# Altium schematic symbol library Movandi_sch.SchLib: 12 symbols
Pins are listed as number, name and electrical type; pins without a type are passive.

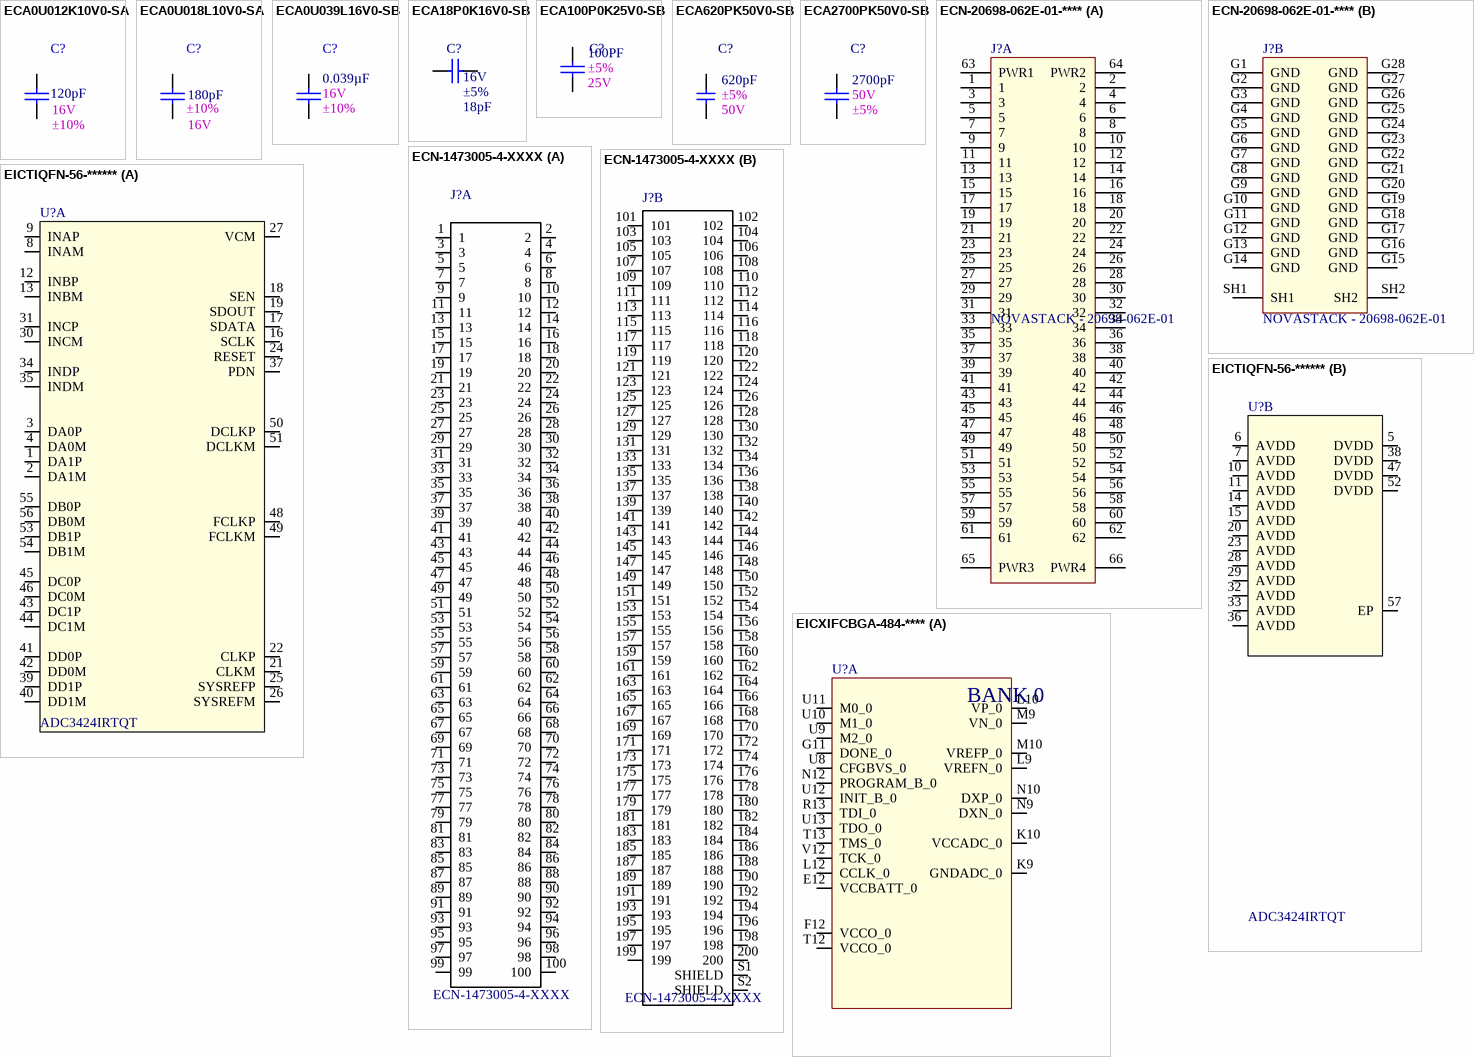
[diagram p0: symbols ECA0U012K10V0-SA to EICXIFCBGA-484-****]

## ECA0U012K10V0-SA
designator C?, comment value 120pF  2nd Auxiliary Field: ±10%  1st Auxiliary Field: 16V  (hidden comment: CAP CER 120PF 16V X7R 0201)
Manufacturer Part Number: 0201YC121KAT2A; Manufacturer: AVX Corporation; Internal Part Number: ECA0U012K10V0-SA; Vendor Part Number: 478-1028-1-ND; Component Height (mm): 0.33mm; 4th Auxiliary Field: RoHS Compliant; Vendor Name: Digi-Key; 3rd Auxiliary Field: *; Part Type: CAP CER 120PF 16V X7R 0201; Temp Co: X7R
footprint SMDC0201 (Footprint not found)
pins: 1, 2

## ECA0U018L10V0-SA
designator C?, comment value 180pF  1st Auxiliary Field: 16V  2nd Auxiliary Field: ±10%  (hidden comment: CAP CER 180PF 16V X7R 0201)
Manufacturer Part Number: GRM033R71C181KA01D; Manufacturer: Murata Electronics; Internal Part Number: ECA0U018L10V0-SA; Vendor Part Number: 490-12688-1-ND; Component Height (mm): 0.33mm; 4th Auxiliary Field: RoHS3 Compliant; Vendor Name: Digi-Key; 3rd Auxiliary Field: *; Part Type: CAP CER 180PF 16V X7R 0201; Temp Co: X7R
footprint SMDC0201 (Footprint not found)
pins: 1, 2

## ECA0U039L16V0-SB
designator C?, comment value 0.039µF  1st Auxiliary Field: 16V  2nd Auxiliary Field: ±10%  (hidden comment: CAP CER 0.039UF 16V X7R 0402)
Manufacturer Part Number: GCM155R71C393KA37D; Manufacturer: Murata Electronics; Internal Part Number: ECA0U039L16V0-SB; Vendor Part Number: 490-16432-1-ND; 3rd Auxiliary Field: ROHS3 Compliant; Component Height (mm): 0.55mm; Vendor Name: Digi-Key; Part Type: CAP CER 0.039UF 16V X7R 0402; Temp Co: X7R; 4th Auxiliary Field: *
footprint SMDC0402 (Footprint not found)
pins: 1, 2

## ECA18P0K16V0-SB
designator C?, comment value 18pF  2nd Auxiliary Field: ±5%  1st Auxiliary Field: 16V  (hidden comment: CAP CER 18PF 16V NP0 0402)
Internal part Number: ECA18P0K16V0-SB; Manufacturer: KEMET; Vendor Part Number: 399-14426-1-ND; Manufacturer Part Number: C0402C180J4GAC7867; 3rd Auxiliary Field: ROHS3 Compliant; Component Height (mm): .55mm; Temperature Coefficient: -55°C ~ 125°C; Vendor Name: Digi-Key; Part Type: CAP CER 18PF 16V NP0 0402
footprint SMDC0402 (Footprint not found)
pins: 1, 2

## ECA100P0K25V0-SB
designator C?, comment value 100PF  2nd Auxiliary Field: ±5%  1st Auxiliary Field: 25V  (hidden comment: CAP CER 100PF 25V X7RCAP CER 100PF 25V C0G/NP0 0402 0402)
CAP CER 100PF 25V C0G/NP0 0402; Manufacturer: KEMET; Vendor Part Number: 399-1022-1-ND; Manufacturer Part Number: C0402C101J3GACTU; Internal Part Number: ECA100P0K25V0-SB; Vendor Name: Digi-Key; 3rd Auxiliary Field: ROHS3 Compliant; Component Height (mm): 0.55mm; Temp Co: -55°C ~ 125°C; Part Type: CAP CER 100PF 25V C0G/NP0 0402
footprint SMDC0402 (Footprint not found)
pins: 1, 2

## ECA620PK50V0-SB
designator C?, comment value 620pF  1st Auxiliary Field: 50V  2nd Auxiliary Field: ±5%  (hidden comment: CAP CER 620PF 50V C0G/NP0 0402)
Manufacturer: KEMET; Manufacturer Part Number: C0402C621J5GAC7867; Internal Part Number: ECA620PK50V0-SB; Vendor Part Number: 399-14922-1-ND; Temp Co: -55°C ~ 125°C; 3rd Auxiliary Field: ROHS3 Compliant; Component Height (mm): 0.55mm; Vendor Name: Digi-Key; Part Type: CAP CER 620PF 50V C0G/NP0 0402; 4th Auxiliary Field: *
footprint SMDC0402 (Footprint not found)
pins: 1, 2

## ECA2700PK50V0-SB
designator C?, comment value 2700pF  2nd Auxiliary Field: ±5%  1st Auxiliary Field: 50V  (hidden comment: CAP CER 2700PF 50V X7R 0402)
Manufacturer: Yageo; Manufacturer Part Number: CC0402JRX7R9BB272; Internal Part Number: ECA2700PK50V0-SB; Vendor Part Number: 311-3767-1-ND; Component Height (mm): 0.55mm; 3rd Auxiliary Field: ROHS3 Compliant; Temp Co: -55°C ~ 125°C; Vendor Name: Digi-Key; Part Type: CAP CER 2700PF 50V X7R 0402
footprint SMDC0402 (Footprint not found)
footprint SMDC0603
pins: 1, 2

## ECN-20698-062E-01-****
designator J?, comment Manufacturer Part Number: NOVASTACK - 20698-062E-01  (hidden comment: CONN REC 0.35 mm pitch, 62 POS SMD)
Manufacturer: I-PEX Connectors; Internal Part Number: ECN-20698-062E-01-****; 1st Auxiliary Field: Receptacle; 2nd Auxiliary Field: 3.5mm; 3rd Auxiliary Field: 62Pos; Component Height (mm): 0.63mm; Temp Co: -40°C ~ 85°C; Value: 20698-062E-01; Vendor Part Number: https://www.i-pex.com/product/novastack-35-hdp; 4th Auxiliary Field: *; Part Type: CONN REC 0.35 mm pitch, 62 POS SMD
footprint NOVASTACK_I-PEX_20698-062E-01_20698-062E-01 (CONN REC 0.35 mm pitch, 62 POS SMD)
part A pins: 1 (power), 2 (power), 3 (power), 4 (power), 5 (power), 6 (power), 7 (power), 8 (power), 9 (power), 10 (power), 11 (power), 12 (power), 13 (power), 14 (power), 15 (power), 16 (power), 17 (power), 18 (power), 19 (power), 20 (power), 21 (power), 22 (power), 23 (power), 24 (power), 25 (power), 26 (power), 27 (power), 28 (power), 29 (power), 30 (power), 31 (power), 32 (power), 33 (power), 34 (power), 35 (power), 36 (power), 37 (power), 38 (power), 39 (power), 40 (power), 41 (power), 42 (power), 43 (power), 44 (power), 45 (power), 46 (power), 47 (power), 48 (power), 49 (power), 50 (power), 51 (power), 52 (power), 53 (power), 54 (power), 55 (power), 56 (power), 57 (power), 58 (power), 59 (power), 60 (power), 61 (power), 62 (power), 63 PWR1 (power), 64 PWR2 (power), 65 PWR3 (power), 66 PWR4 (power)
part B pins: G1 GND (power), G2 GND (power), G3 GND (power), G4 GND (power), G5 GND (power), G6 GND (power), G7 GND (power), G8 GND (power), G9 GND (power), G10 GND (power), G11 GND (power), G12 GND (power), G13 GND (power), G14 GND (power), G15 GND (power), G16 GND (power), G17 GND (power), G18 GND (power), G19 GND (power), G20 GND (power), G21 GND (power), G22 GND (power), G23 GND (power), G24 GND (power), G25 GND (power), G26 GND (power), G27 GND (power), G28 GND (power), SH1 (power), SH2 (power)

## ECN-1473005-4-XXXX
designator J?
200 Position SODIMM DDR2 SDRAM Socket Surface Mount, Right Angle; Manufacturer: TE Connectivity AMP Connectors; Vendor Part Number: A114851-ND; 2nd Auxiliary Field: ROHS complaint; Component Height (mm): 9mm; Vendor Name: Digi-Key; 1st Auxiliary Field: *; 3rd Auxiliary Field: *; 4th Auxiliary Field: *; Internal Part Number: ECN-1473005-4-XXXX; Manufacturer Part Number: 1473005-4; Part Type: CONN SKT SODIMM 200POS R/A SMD; Temp Co: *; Value: ECN-1473005-4-XXXX
footprint TE_1473005 (200 Position SODIMM DDR2 SDRAM Socket Surface Mount, Right Angle)
part A pins: 1, 2, 3, 4, 5, 6, 7, 8, 9, 10, 11, 12, 13, 14, 15, 16, 17, 18, 19, 20, 21, 22, 23, 24, 25, 26, 27, 28, 29, 30, 31, 32, 33, 34, 35, 36, 37, 38, 39, 40, 41, 42, 43, 44, 45, 46, 47, 48, 49, 50, 51, 52, 53, 54, 55, 56, 57, 58, 59, 60, 61, 62, 63, 64, 65, 66, 67, 68, 69, 70, 71, 72, 73, 74, 75, 76, 77, 78, 79, 80, 81, 82, 83, 84, 85, 86, 87, 88, 89, 90, 91, 92, 93, 94, 95, 96, 97, 98, 99, 100
part B pins: 101, 102, 103, 104, 105, 106, 107, 108, 109, 110, 111, 112, 113, 114, 115, 116, 117, 118, 119, 120, 121, 122, 123, 124, 125, 126, 127, 128, 129, 130, 131, 132, 133, 134, 135, 136, 137, 138, 139, 140, 141, 142, 143, 144, 145, 146, 147, 148, 149, 150, 151, 152, 153, 154, 155, 156, 157, 158, 159, 160, 161, 162, 163, 164, 165, 166, 167, 168, 169, 170, 171, 172, 173, 174, 175, 176, 177, 178, 179, 180, 181, 182, 183, 184, 185, 186, 187, 188, 189, 190, 191, 192, 193, 194, 195, 196, 197, 198, 199, 200, S1 SHIELD, S2 SHIELD

## EICTIQFN-56-******
designator U?, comment value ADC3424IRTQT  (hidden comment: IC ADC 12BIT PIPELINED 56QFN)
Internal Part Number: EICTIQFN-56-******; Manufacturer: Texas Instruments; Vendor Part Number: 296-43752-1-ND; 2nd Auxiliary Field: LVDS - Serial; 3rd Auxiliary Field: ROHS3 Compliant; Temp Co: -40°C ~ 85°C; Vendor Name: Digi-Key; 1st Auxiliary Field: 12bit, 125M; 4th Auxiliary Field: *; Part Type: IC ADC 12BIT PIPELINED 56QFN; Manufacturer Part Number: ADC3424IRTQT
footprint QFN50P800X800X100_HS-57N (QFN, 56-Leads, Body 8.00x8.00mm, Pitch 0.50mm, Thermal Pad 6.60x6.60mm, IPC Medium Density)
part A pins: 1 DA1P, 2 DA1M (power), 3 DA0P, 4 DA0M, 8 INAM (power), 9 INAP, 12 INBP (power), 13 INBM, 16 SCLK (power), 17 SDATA, 18 SEN, 19 SDOUT (power), 21 CLKM, 22 CLKP (power), 24 RESET, 25 SYSREFP, 26 SYSREFM (power), 27 VCM, 30 INCM (power), 31 INCP, 34 INDP, 35 INDM, 37 PDN, 39 DD1P, 40 DD1M (power), 41 DD0P, 42 DD0M, 43 DC1P, 44 DC1M (power), 45 DC0P, 46 DC0M, 48 FCLKP, 49 FCLKM, 50 DCLKP (power), 51 DCLKM, 53 DB1P, 54 DB1M (power), 55 DB0P, 56 DB0M
part B pins: 5 DVDD (power), 6 AVDD, 7 AVDD, 10 AVDD, 11 AVDD, 14 AVDD, 15 AVDD, 20 AVDD, 23 AVDD, 28 AVDD, 29 AVDD, 32 AVDD, 33 AVDD (power), 36 AVDD (power), 38 DVDD, 47 DVDD (power), 52 DVDD, 57 EP

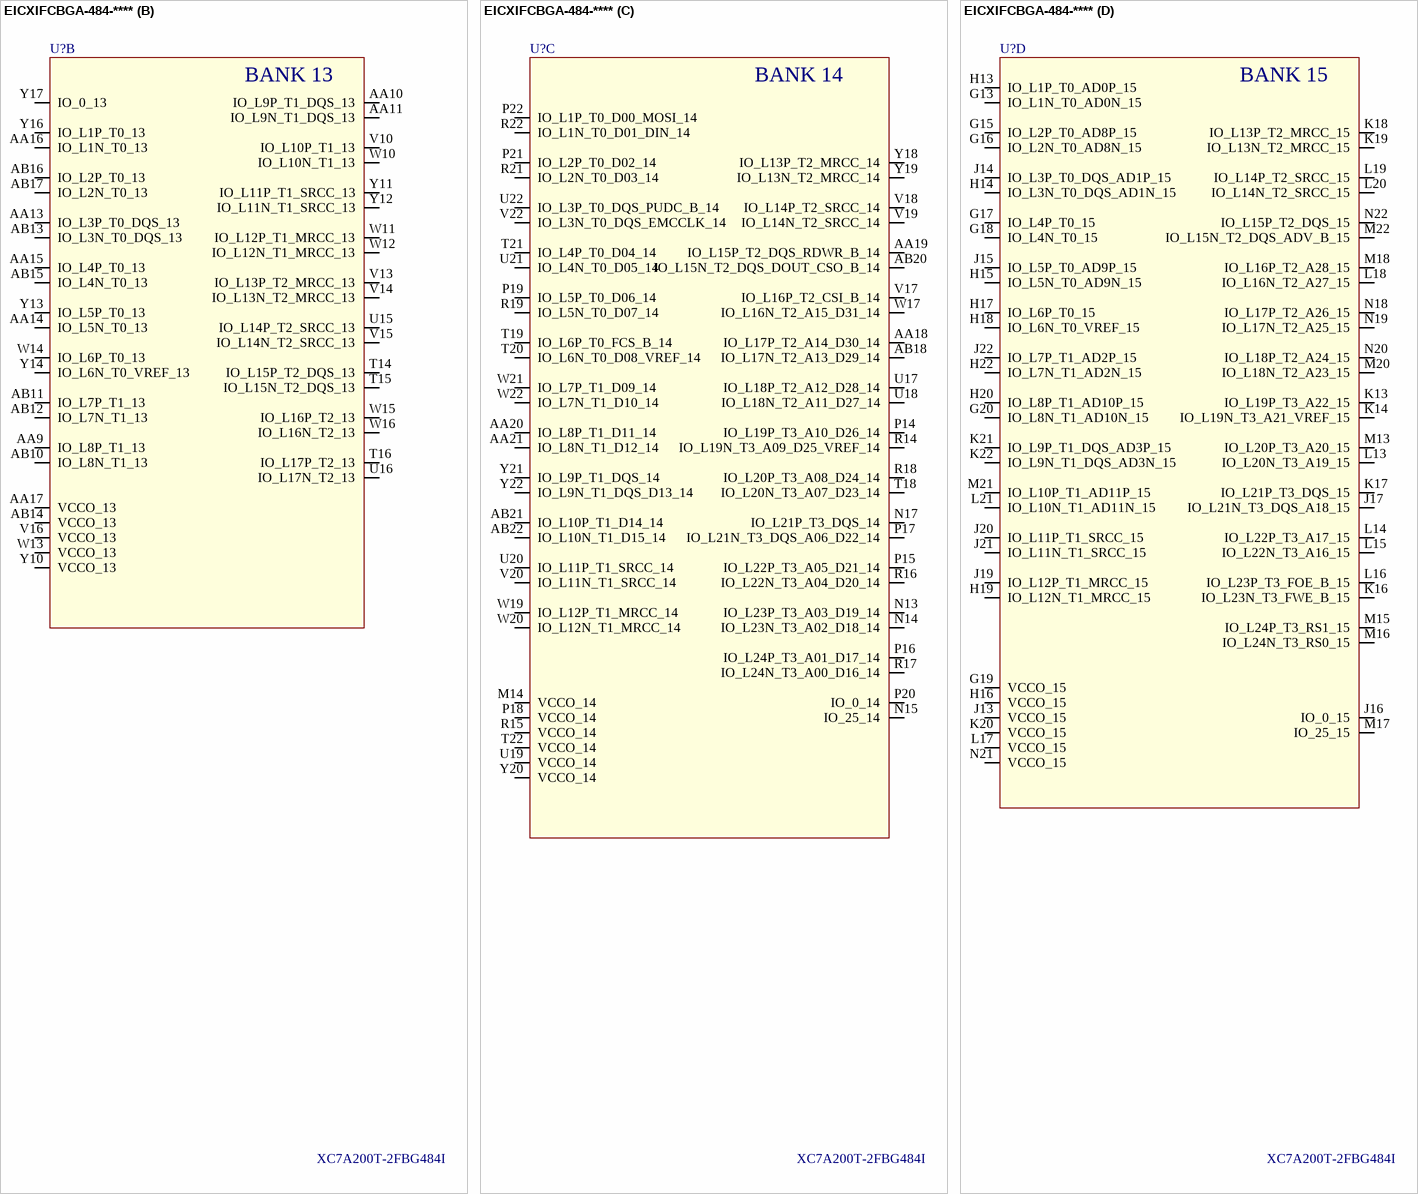
[diagram p1: symbol EICXIFCBGA-484-****]

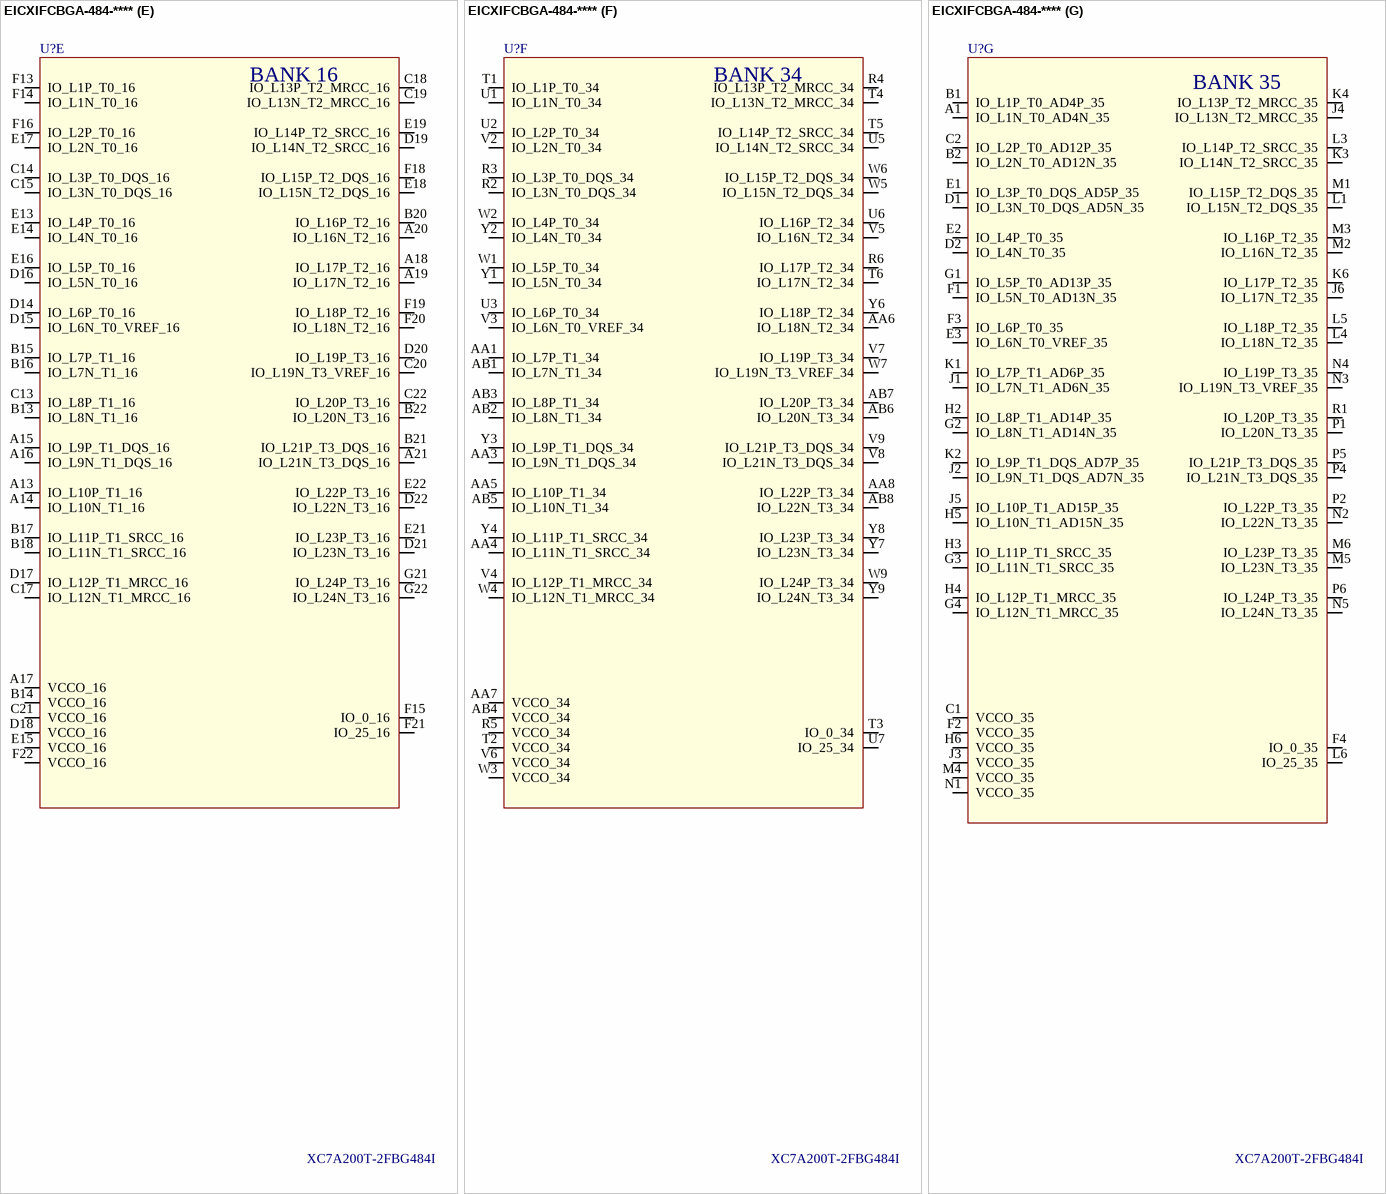
[diagram p2: symbol EICXIFCBGA-484-****]

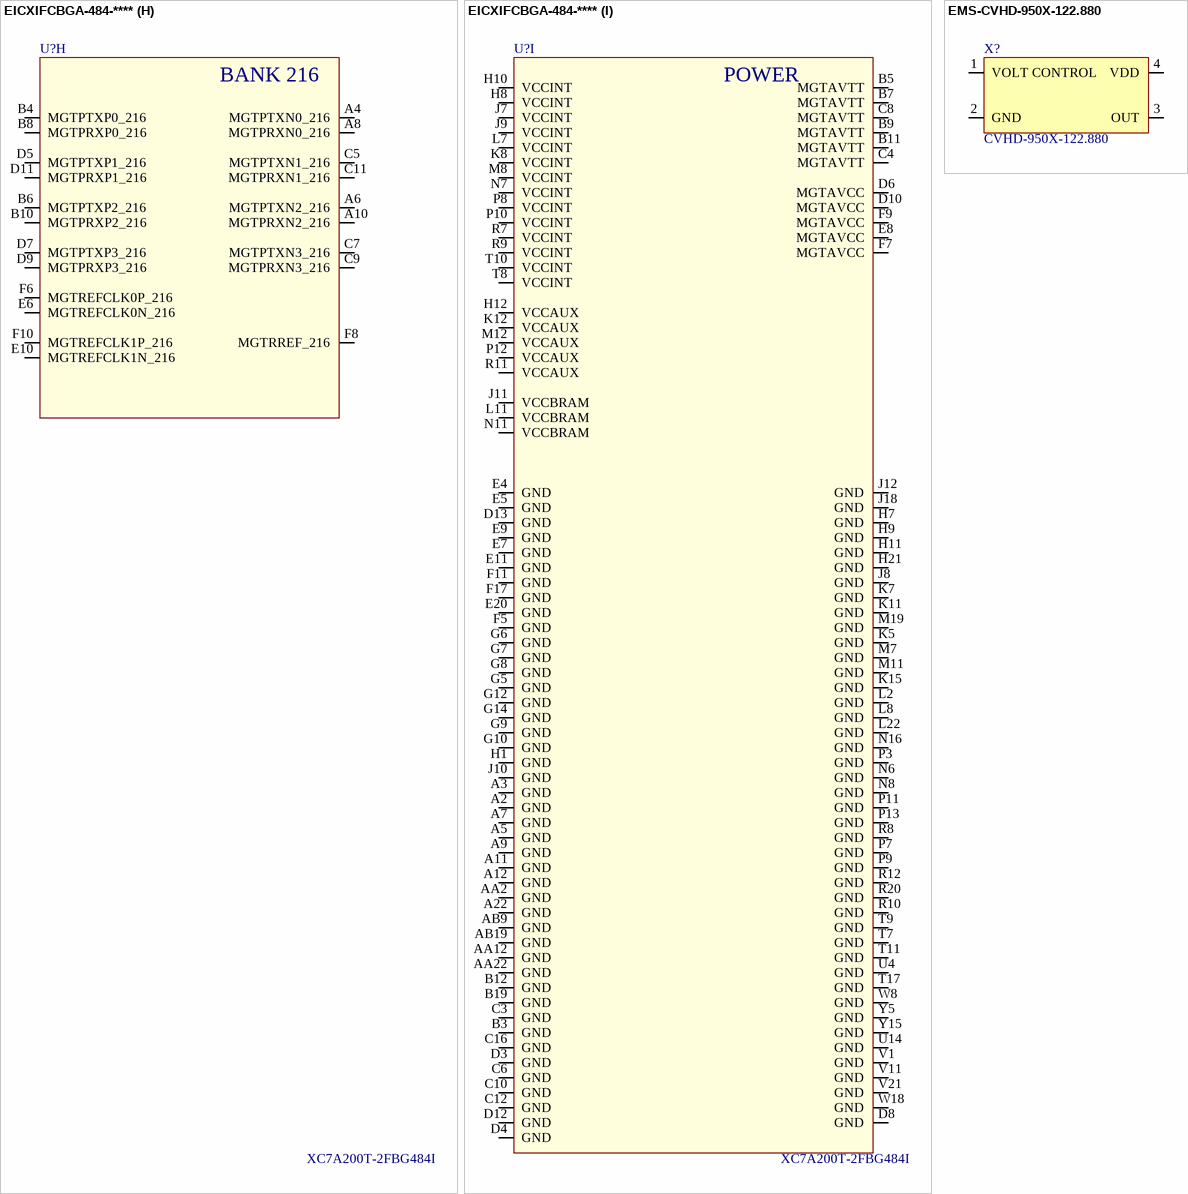
[diagram p3: symbols EICXIFCBGA-484-**** to EMS-CVHD-950X-122.880]

## EICXIFCBGA-484-****
designator U?, comment value XC7A200T-2FBG484I  (hidden comment: IC FPGA 285 I/O 484FCBGA)
Internal Part Number: EICXIFCBGA-484-****; Manufacturer: Xilinx Inc.; Vendor Part Number: 122-1866-ND; 2nd Auxiliary Field: 285 I/0; 1st Auxiliary Field: 0.95V ~ 1.05V; 3rd Auxiliary Field: ROHS3 Compliant; Temp Co: -40°C ~ 100°C (TJ); Vendor Name: Digi-Key; 4th Auxiliary Field: *; Component Height (mm): *; Manufacturer Part Number: XC7A200T-2FBG484I; Part Type: IC FPGA 285 I/O 484FCBGA
footprint BGA484C100P22X22_2300X2300X113 (BGA, 484-Leads, Body 23.00x23.00mmx1.13mm, Pitch 1.00mm)
part A pins: E12 VCCBATT_0, F12 VCCO_0, G11 DONE_0, K9 GNDADC_0, K10 VCCADC_0, L9 VREFN_0, L10 VP_0, L12 CCLK_0, M9 VN_0, M10 VREFP_0, N9 DXN_0, N10 DXP_0, N12 PROGRAM_B_0, R13 TDI_0, T12 VCCO_0, T13 TMS_0, U8 CFGBVS_0, U9 M2_0, U10 M1_0, U11 M0_0, U12 INIT_B_0, U13 TDO_0, V12 TCK_0
part B pins: AA9 IO_L8P_T1_13, AA10 IO_L9P_T1_DQS_13, AA11 IO_L9N_T1_DQS_13, AA13 IO_L3P_T0_DQS_13, AA14 IO_L5N_T0_13, AA15 IO_L4P_T0_13, AA16 IO_L1N_T0_13, AA17 VCCO_13, AB10 IO_L8N_T1_13, AB11 IO_L7P_T1_13, AB12 IO_L7N_T1_13, AB13 IO_L3N_T0_DQS_13, AB14 VCCO_13, AB15 IO_L4N_T0_13, AB16 IO_L2P_T0_13, AB17 IO_L2N_T0_13, T14 IO_L15P_T2_DQS_13, T15 IO_L15N_T2_DQS_13, T16 IO_L17P_T2_13, U15 IO_L14P_T2_SRCC_13, U16 IO_L17N_T2_13, V10 IO_L10P_T1_13, V13 IO_L13P_T2_MRCC_13, V14 IO_L13N_T2_MRCC_13, V15 IO_L14N_T2_SRCC_13, V16 VCCO_13, W10 IO_L10N_T1_13, W11 IO_L12P_T1_MRCC_13, W12 IO_L12N_T1_MRCC_13, W13 VCCO_13, W14 IO_L6P_T0_13, W15 IO_L16P_T2_13, W16 IO_L16N_T2_13, Y10 VCCO_13, Y11 IO_L11P_T1_SRCC_13, Y12 IO_L11N_T1_SRCC_13, Y13 IO_L5P_T0_13, Y14 IO_L6N_T0_VREF_13, Y16 IO_L1P_T0_13, Y17 IO_0_13
part C pins: AA18 IO_L17P_T2_A14_D30_14, AA19 IO_L15P_T2_DQS_RDWR_B_14, AA20 IO_L8P_T1_D11_14, AA21 IO_L8N_T1_D12_14, AB18 IO_L17N_T2_A13_D29_14, AB20 IO_L15N_T2_DQS_DOUT_CSO_B_14, AB21 IO_L10P_T1_D14_14, AB22 IO_L10N_T1_D15_14, M14 VCCO_14, N13 IO_L23P_T3_A03_D19_14, N14 IO_L23N_T3_A02_D18_14, N15 IO_25_14, N17 IO_L21P_T3_DQS_14, P14 IO_L19P_T3_A10_D26_14, P15 IO_L22P_T3_A05_D21_14, P16 IO_L24P_T3_A01_D17_14, P17 IO_L21N_T3_DQS_A06_D22_14, P18 VCCO_14, P19 IO_L5P_T0_D06_14, P20 IO_0_14, P21 IO_L2P_T0_D02_14, P22 IO_L1P_T0_D00_MOSI_14, R14 IO_L19N_T3_A09_D25_VREF_14, R15 VCCO_14, R16 IO_L22N_T3_A04_D20_14, R17 IO_L24N_T3_A00_D16_14, R18 IO_L20P_T3_A08_D24_14, R19 IO_L5N_T0_D07_14, R21 IO_L2N_T0_D03_14, R22 IO_L1N_T0_D01_DIN_14, T18 IO_L20N_T3_A07_D23_14, T19 IO_L6P_T0_FCS_B_14, T20 IO_L6N_T0_D08_VREF_14, T21 IO_L4P_T0_D04_14, T22 VCCO_14, U17 IO_L18P_T2_A12_D28_14, U18 IO_L18N_T2_A11_D27_14, U19 VCCO_14, U20 IO_L11P_T1_SRCC_14, U21 IO_L4N_T0_D05_14, U22 IO_L3P_T0_DQS_PUDC_B_14, V17 IO_L16P_T2_CSI_B_14, V18 IO_L14P_T2_SRCC_14, V19 IO_L14N_T2_SRCC_14, V20 IO_L11N_T1_SRCC_14, V22 IO_L3N_T0_DQS_EMCCLK_14, W17 IO_L16N_T2_A15_D31_14, W19 IO_L12P_T1_MRCC_14, W20 IO_L12N_T1_MRCC_14, W21 IO_L7P_T1_D09_14, W22 IO_L7N_T1_D10_14, Y18 IO_L13P_T2_MRCC_14, Y19 IO_L13N_T2_MRCC_14, Y20 VCCO_14, Y21 IO_L9P_T1_DQS_14, Y22 IO_L9N_T1_DQS_D13_14
part D pins: G13 IO_L1N_T0_AD0N_15, G15 IO_L2P_T0_AD8P_15, G16 IO_L2N_T0_AD8N_15, G17 IO_L4P_T0_15, G18 IO_L4N_T0_15, G19 VCCO_15, G20 IO_L8N_T1_AD10N_15, H13 IO_L1P_T0_AD0P_15, H14 IO_L3N_T0_DQS_AD1N_15, H15 IO_L5N_T0_AD9N_15, H16 VCCO_15, H17 IO_L6P_T0_15, H18 IO_L6N_T0_VREF_15, H19 IO_L12N_T1_MRCC_15, H20 IO_L8P_T1_AD10P_15, H22 IO_L7N_T1_AD2N_15, J13 VCCO_15, J14 IO_L3P_T0_DQS_AD1P_15, J15 IO_L5P_T0_AD9P_15, J16 IO_0_15, J17 IO_L21N_T3_DQS_A18_15, J19 IO_L12P_T1_MRCC_15, J20 IO_L11P_T1_SRCC_15, J21 IO_L11N_T1_SRCC_15, J22 IO_L7P_T1_AD2P_15, K13 IO_L19P_T3_A22_15, K14 IO_L19N_T3_A21_VREF_15, K16 IO_L23N_T3_FWE_B_15, K17 IO_L21P_T3_DQS_15, K18 IO_L13P_T2_MRCC_15, K19 IO_L13N_T2_MRCC_15, K20 VCCO_15, K21 IO_L9P_T1_DQS_AD3P_15, K22 IO_L9N_T1_DQS_AD3N_15, L13 IO_L20N_T3_A19_15, L14 IO_L22P_T3_A17_15, L15 IO_L22N_T3_A16_15, L16 IO_L23P_T3_FOE_B_15, L17 VCCO_15, L18 IO_L16N_T2_A27_15, L19 IO_L14P_T2_SRCC_15, L20 IO_L14N_T2_SRCC_15, L21 IO_L10N_T1_AD11N_15, M13 IO_L20P_T3_A20_15, M15 IO_L24P_T3_RS1_15, M16 IO_L24N_T3_RS0_15, M17 IO_25_15, M18 IO_L16P_T2_A28_15, M20 IO_L18N_T2_A23_15, M21 IO_L10P_T1_AD11P_15, M22 IO_L15N_T2_DQS_ADV_B_15, N18 IO_L17P_T2_A26_15, N19 IO_L17N_T2_A25_15, N20 IO_L18P_T2_A24_15, N21 VCCO_15, N22 IO_L15P_T2_DQS_15
part E pins: A13 IO_L10P_T1_16, A14 IO_L10N_T1_16, A15 IO_L9P_T1_DQS_16, A16 IO_L9N_T1_DQS_16, A17 VCCO_16, A18 IO_L17P_T2_16, A19 IO_L17N_T2_16, A20 IO_L16N_T2_16, A21 IO_L21N_T3_DQS_16, B13 IO_L8N_T1_16, B14 VCCO_16, B15 IO_L7P_T1_16, B16 IO_L7N_T1_16, B17 IO_L11P_T1_SRCC_16, B18 IO_L11N_T1_SRCC_16, B20 IO_L16P_T2_16, B21 IO_L21P_T3_DQS_16, B22 IO_L20N_T3_16, C13 IO_L8P_T1_16, C14 IO_L3P_T0_DQS_16, C15 IO_L3N_T0_DQS_16, C17 IO_L12N_T1_MRCC_16, C18 IO_L13P_T2_MRCC_16, C19 IO_L13N_T2_MRCC_16, C20 IO_L19N_T3_VREF_16, C21 VCCO_16, C22 IO_L20P_T3_16, D14 IO_L6P_T0_16, D15 IO_L6N_T0_VREF_16, D16 IO_L5N_T0_16, D17 IO_L12P_T1_MRCC_16, D18 VCCO_16, D19 IO_L14N_T2_SRCC_16, D20 IO_L19P_T3_16, D21 IO_L23N_T3_16, D22 IO_L22N_T3_16, E13 IO_L4P_T0_16, E14 IO_L4N_T0_16, E15 VCCO_16, E16 IO_L5P_T0_16, E17 IO_L2N_T0_16, E18 IO_L15N_T2_DQS_16, E19 IO_L14P_T2_SRCC_16, E21 IO_L23P_T3_16, E22 IO_L22P_T3_16, F13 IO_L1P_T0_16, F14 IO_L1N_T0_16, F15 IO_0_16, F16 IO_L2P_T0_16, F18 IO_L15P_T2_DQS_16, F19 IO_L18P_T2_16, F20 IO_L18N_T2_16, F21 IO_25_16, F22 VCCO_16, G21 IO_L24P_T3_16, G22 IO_L24N_T3_16
part F pins: AA1 IO_L7P_T1_34, AA3 IO_L9N_T1_DQS_34, AA4 IO_L11N_T1_SRCC_34, AA5 IO_L10P_T1_34, AA6 IO_L18N_T2_34, AA7 VCCO_34, AA8 IO_L22P_T3_34, AB1 IO_L7N_T1_34, AB2 IO_L8N_T1_34, AB3 IO_L8P_T1_34, AB4 VCCO_34, AB5 IO_L10N_T1_34, AB6 IO_L20N_T3_34, AB7 IO_L20P_T3_34, AB8 IO_L22N_T3_34, R2 IO_L3N_T0_DQS_34, R3 IO_L3P_T0_DQS_34, R4 IO_L13P_T2_MRCC_34, R5 VCCO_34, R6 IO_L17P_T2_34, T1 IO_L1P_T0_34, T2 VCCO_34, T3 IO_0_34, T4 IO_L13N_T2_MRCC_34, T5 IO_L14P_T2_SRCC_34, T6 IO_L17N_T2_34, U1 IO_L1N_T0_34, U2 IO_L2P_T0_34, U3 IO_L6P_T0_34, U5 IO_L14N_T2_SRCC_34, U6 IO_L16P_T2_34, U7 IO_25_34, V2 IO_L2N_T0_34, V3 IO_L6N_T0_VREF_34, V4 IO_L12P_T1_MRCC_34, V5 IO_L16N_T2_34, V6 VCCO_34, V7 IO_L19P_T3_34, V8 IO_L21N_T3_DQS_34, V9 IO_L21P_T3_DQS_34, W1 IO_L5P_T0_34, W2 IO_L4P_T0_34, W3 VCCO_34, W4 IO_L12N_T1_MRCC_34, W5 IO_L15N_T2_DQS_34, W6 IO_L15P_T2_DQS_34, W7 IO_L19N_T3_VREF_34, W9 IO_L24P_T3_34, Y1 IO_L5N_T0_34, Y2 IO_L4N_T0_34, Y3 IO_L9P_T1_DQS_34, Y4 IO_L11P_T1_SRCC_34, Y6 IO_L18P_T2_34, Y7 IO_L23N_T3_34, Y8 IO_L23P_T3_34, Y9 IO_L24N_T3_34
part G pins: A1 IO_L1N_T0_AD4N_35, B1 IO_L1P_T0_AD4P_35, B2 IO_L2N_T0_AD12N_35, C1 VCCO_35, C2 IO_L2P_T0_AD12P_35, D1 IO_L3N_T0_DQS_AD5N_35, D2 IO_L4N_T0_35, E1 IO_L3P_T0_DQS_AD5P_35, E2 IO_L4P_T0_35, E3 IO_L6N_T0_VREF_35, F1 IO_L5N_T0_AD13N_35, F2 VCCO_35, F3 IO_L6P_T0_35, F4 IO_0_35, G1 IO_L5P_T0_AD13P_35, G2 IO_L8N_T1_AD14N_35, G3 IO_L11N_T1_SRCC_35, G4 IO_L12N_T1_MRCC_35, H2 IO_L8P_T1_AD14P_35, H3 IO_L11P_T1_SRCC_35, H4 IO_L12P_T1_MRCC_35, H5 IO_L10N_T1_AD15N_35, H6 VCCO_35, J1 IO_L7N_T1_AD6N_35, J2 IO_L9N_T1_DQS_AD7N_35, J3 VCCO_35, J4 IO_L13N_T2_MRCC_35, J5 IO_L10P_T1_AD15P_35, J6 IO_L17N_T2_35, K1 IO_L7P_T1_AD6P_35, K2 IO_L9P_T1_DQS_AD7P_35, K3 IO_L14N_T2_SRCC_35, K4 IO_L13P_T2_MRCC_35, K6 IO_L17P_T2_35, L1 IO_L15N_T2_DQS_35, L3 IO_L14P_T2_SRCC_35, L4 IO_L18N_T2_35, L5 IO_L18P_T2_35, L6 IO_25_35, M1 IO_L15P_T2_DQS_35, M2 IO_L16N_T2_35, M3 IO_L16P_T2_35, M4 VCCO_35, M5 IO_L23N_T3_35, M6 IO_L23P_T3_35, N1 VCCO_35, N2 IO_L22N_T3_35, N3 IO_L19N_T3_VREF_35, N4 IO_L19P_T3_35, N5 IO_L24N_T3_35, P1 IO_L20N_T3_35, P2 IO_L22P_T3_35, P4 IO_L21N_T3_DQS_35, P5 IO_L21P_T3_DQS_35, P6 IO_L24P_T3_35, R1 IO_L20P_T3_35
part H pins: A4 MGTPTXN0_216, A6 MGTPTXN2_216, A8 MGTPRXN0_216, A10 MGTPRXN2_216, B4 MGTPTXP0_216, B6 MGTPTXP2_216, B8 MGTPRXP0_216, B10 MGTPRXP2_216, C5 MGTPTXN1_216, C7 MGTPTXN3_216, C9 MGTPRXN3_216, C11 MGTPRXN1_216, D5 MGTPTXP1_216, D7 MGTPTXP3_216, D9 MGTPRXP3_216, D11 MGTPRXP1_216, E6 MGTREFCLK0N_216, E10 MGTREFCLK1N_216, F6 MGTREFCLK0P_216, F8 MGTRREF_216, F10 MGTREFCLK1P_216
part I pins: A2 GND, A3 GND, A5 GND, A7 GND, A9 GND, A11 GND, A12 GND, A22 GND, AA2 GND, AA12 GND, AA22 GND, AB9 GND, AB19 GND, B3 GND, B5 MGTAVTT, B7 MGTAVTT, B9 MGTAVTT, B11 MGTAVTT, B12 GND, B19 GND, C3 GND, C4 MGTAVTT, C6 GND, C8 MGTAVTT, C10 GND, C12 GND, C16 GND, D3 GND, D4 GND, D6 MGTAVCC, D8 GND, D10 MGTAVCC, D12 GND, D13 GND, E4 GND, E5 GND, E7 GND, E8 MGTAVCC, E9 GND, E11 GND, E20 GND, F5 GND, F7 MGTAVCC, F9 MGTAVCC, F11 GND, F17 GND, G5 GND, G6 GND, G7 GND, G8 GND, G9 GND, G10 GND, G12 GND, G14 GND, H1 GND, H7 GND, H8 VCCINT, H9 GND, H10 VCCINT, H11 GND, H12 VCCAUX, H21 GND, J7 VCCINT, J8 GND, J9 VCCINT, J10 GND, J11 VCCBRAM, J12 GND, J18 GND, K5 GND, K7 GND, K8 VCCINT, K11 GND, K12 VCCAUX, K15 GND, L2 GND, L7 VCCINT, L8 GND, L11 VCCBRAM, L22 GND, M7 GND, M8 VCCINT, M11 GND, M12 VCCAUX, M19 GND, N6 GND, N7 VCCINT, N8 GND, N11 VCCBRAM, N16 GND, P3 GND, P7 GND, P8 VCCINT, P9 GND, P10 VCCINT, P11 GND, P12 VCCAUX, P13 GND, R7 VCCINT, R8 GND, R9 VCCINT, R10 GND, R11 VCCAUX, R12 GND, R20 GND, T7 GND, T8 VCCINT, T9 GND, T10 VCCINT, T11 GND, T17 GND, U4 GND, U14 GND, V1 GND, V11 GND, V21 GND, W8 GND, W18 GND, Y5 GND, Y15 GND
part A text: BANK 0
part B text: BANK 13
part C text: BANK 14
part D text: BANK 15
part E text: BANK 16
part F text: BANK 34
part G text: BANK 35
part H text: BANK 216
part I text: POWER

## EMS-CVHD-950X-122.880
designator X?, comment value CVHD-950X-122.880  (hidden comment: XTAL OSC VCXO 122.8800MHZ CMOS)
Internal Part Number: EMS-CVHD-950X-122.880; Manufacturer: Crystek Corporation; Vendor Part Number: 744-1765-ND; 1st Auxiliary Field: 3.3V; 2nd Auxiliary Field: 122.88MHz; 3rd Auxiliary Field: ROHS3 Compliant; Component Height (mm): 5.3mm; Temp Coefficient: -40°C ~ 85°C; Vendor: Digi-Key; 4th Auxiliary Field: *; Manufacturer Part Number: CVHD-950X-122.880; Part Type: XTAL OSC VCXO 122.8800MHZ CMOS
footprint OSC_CVHD-950-122.880-4N (Footprint not found)
pins: 1 VOLT CONTROL, 2 GND (power), 3 OUT, 4 VDD